# Altium footprint library RayPCB20210502.PcbLib: 231 footprints (part 9 of 15)
Each footprint in its own frame and in the unit in brackets; x right, y up, seen from the top. Pads: shape width x height; smd on the part's side, far side on the other; paste and mask are expansions set on the pad; w line width, h text height; cw(c..) or ccw(c..) is an arc to the next point about the centre after c.
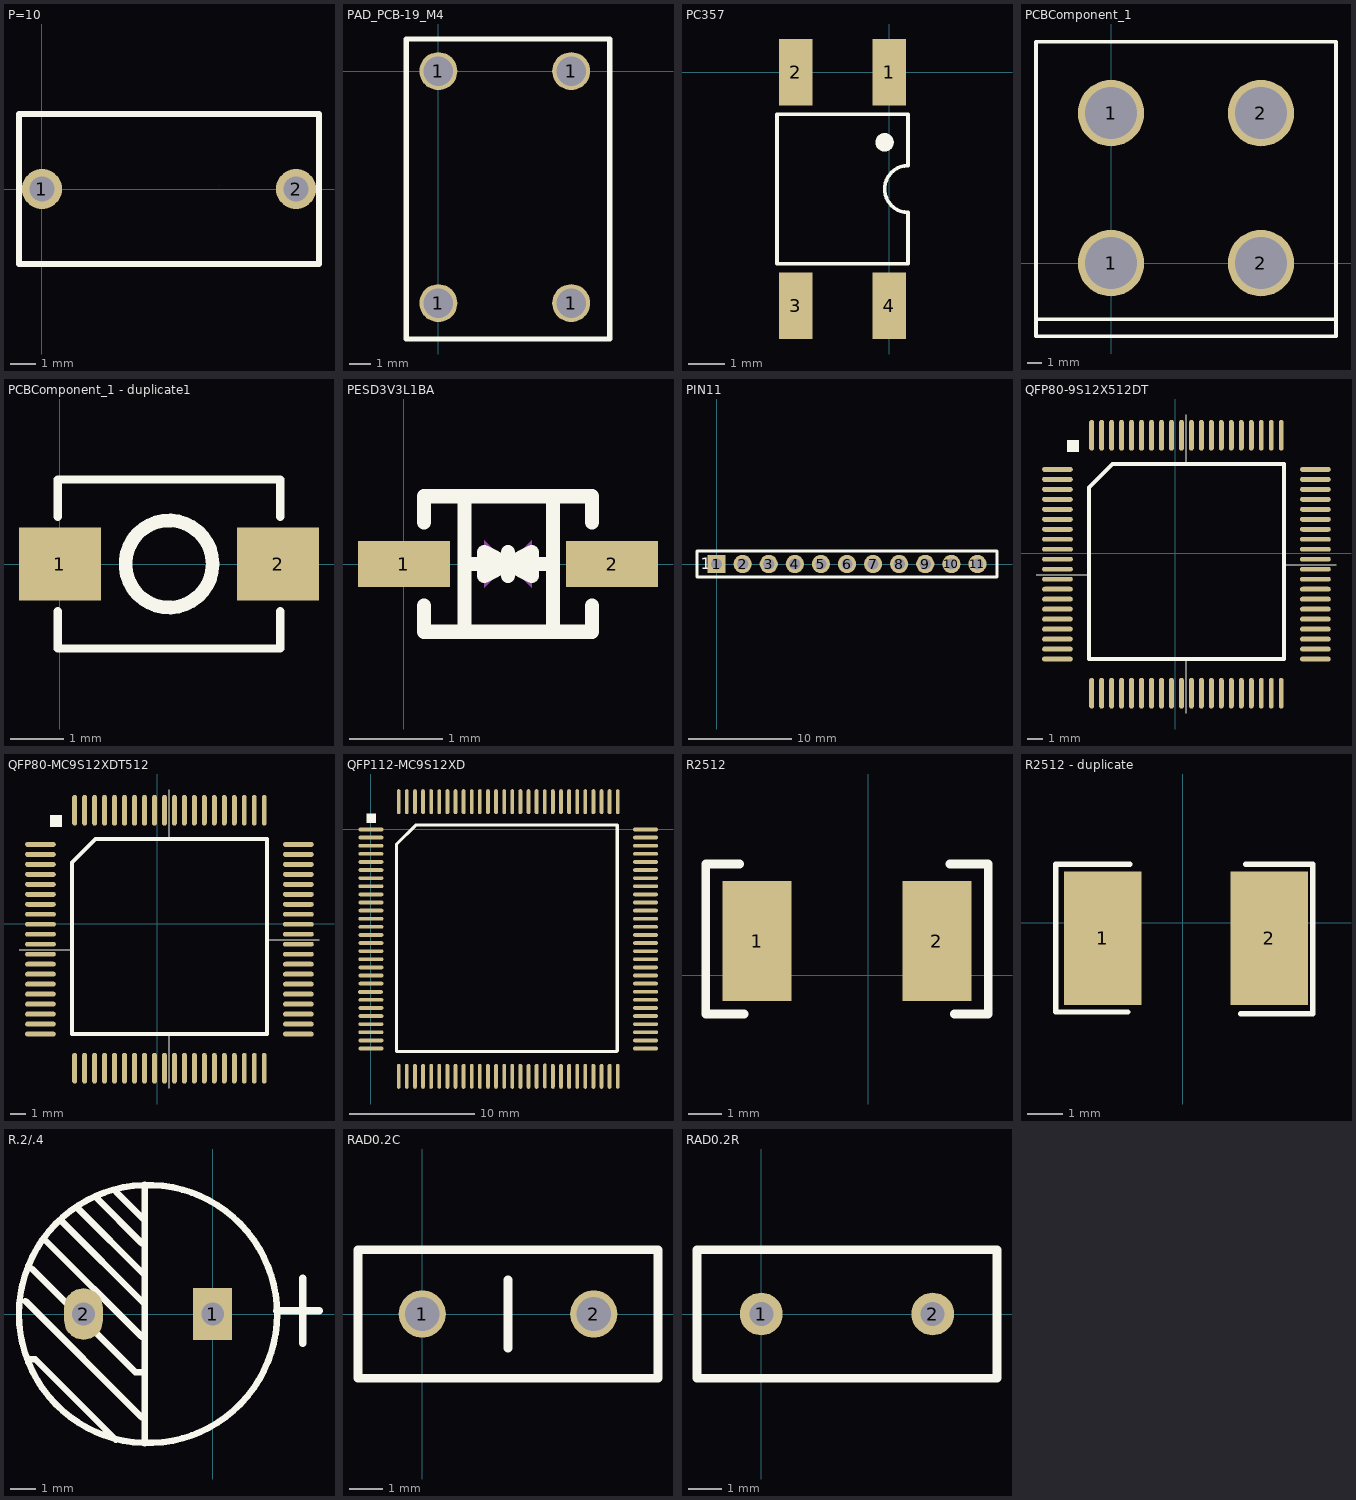
[diagram p8: the footprints below, top view; thin cyan lines are the x and y axes]

## P=10 [mm]
pads (2):
  round 1.6 hole 1: 1(0,0) 2(10.16,0)
Top Overlay:
  lines w0.254: -0.92,-3 11.08,-3 11.08,3 -0.92,3 -0.92,-3
Mechanical 15:
  lines w0.003: 7.112,0.127 7.112,0.127

## PAD_PCB-19_M4 [mm]
pads (4):
  round 1.8 hole 1.4: 1(0,-11) 1(0,0) 1(6.3,-11) 1(6.3,0)
Top Overlay:
  lines w0.254: -1.524,-12.7 -1.524,1.524 8.128,1.524 8.128,-12.7 -1.524,-12.7

## PC357 [mm]
pads (4):
  rect 0.9x1.8 smd: 1(0,0) 2(-2.54,0) 3(-2.54,-6.35) 4(0,-6.35)
Top Overlay:
  circle w0.25: c-0.127,-1.907 r0.125
  lines w0.1: -3.048,-5.207 -3.048,-1.143 0.508,-1.143 0.508,-2.54 ccw(c0.508,-3.175) 0.508,-3.81 0.508,-5.207 -3.048,-5.207

## PCBComponent_1 [mm]
pads (4):
  round 4.5 hole 3.5: 1(0,0) 1(0,10.16) 2(10.16,0) 2(10.16,10.16)
Top Overlay:
  lines w0.254: -5.08,-3.81 15.24,-3.81 ; -5.08,-4.953 15.24,-4.953 15.24,14.986 -5.08,14.986 -5.08,-4.953

## PCBComponent_1 - duplicate [mil]

## PCBComponent_1 - duplicate1 [mm]
pads (2):
  rect 1.53x1.36 smd: 1(0,0) 2(4.07,0)
Top Overlay:
  circle w0.254: c2.035,0 r0.813
  lines w0.152: -0.041,-0.883 -0.041,-1.576 4.111,-1.576 4.111,-0.883 ; -0.041,0.883 -0.041,1.576 4.111,1.576 4.111,0.883
Mechanical 15:
  lines w0.003: 3.432,0.127 3.432,0.127

## PESD3V3L1BA [mm]
pads (2):
  rect 0.985x0.49 smd: 1(0,0) 2(2.235,0)
Top Overlay:
  lines w0.152: 0.216,-0.448 0.216,-0.726 2.019,-0.726 2.019,-0.448 ; 0.216,0.448 0.216,0.726 2.019,0.726 2.019,0.448 ; 0.651,-0.726 0.651,0.726 ; 1.601,-0.726 1.601,0.726
  lines w0.154: 0.651,0 1.601,0.003 ; 0.99,0 1.121,0 1.371,0.127 1.371,-0.127 1.12,-0.003 ; 1.115,0.003 0.863,0.127 0.863,-0.127 1.114,0 1.244,0 ; 1.117,-0.127 1.117,0.127
Mechanical 15:
  region: 1.371,-0.254 1.371,0.254 1.117,0
  region: 0.863,0.254 0.863,-0.254 1.117,0

## PIN11 [mil]
pads (11):
  rect 70x70 hole 43: 1(0,0)
  round 70 hole 43: 2(100,0) 3(200,0) 4(300,0) 5(400,0) 6(500,0) 7(600,0) 8(700,0) 9(800,0) 10(900,0) 11(1000,0)
Top Overlay:
  lines w10: -75,-50 1075,-50 1075,50 -75,50 -75,-50
  text "1" at -60,-20 h45

## QFP80-9S12X512DT [mm]
pads (80):
  oval 2x0.32 smd: 1(-7.67,5.465) 2(-7.67,4.815) 3(-7.67,4.165) 4(-7.67,3.515) 5(-7.67,2.865) 6(-7.67,2.215) 7(-7.67,1.565) 8(-7.67,0.915) 9(-7.67,0.265) 10(-7.67,-0.385) 11(-7.67,-1.035) 12(-7.67,-1.685) 13(-7.67,-2.335) 14(-7.67,-2.985) 15(-7.67,-3.635) 16(-7.67,-4.285) 17(-7.67,-4.935) 18(-7.67,-5.585) 19(-7.67,-6.235) 20(-7.67,-6.885) 41(9.13,-6.885) 42(9.13,-6.235) 43(9.13,-5.585) 44(9.13,-4.935) 45(9.13,-4.285) 46(9.13,-3.635) 47(9.13,-2.985) 48(9.13,-2.335) 49(9.13,-1.685) 50(9.13,-1.035) 51(9.13,-0.385) 52(9.13,0.265) 53(9.13,0.915) 54(9.13,1.565) 55(9.13,2.215) 56(9.13,2.865) 57(9.13,3.515) 58(9.13,4.165) 59(9.13,4.815) 60(9.13,5.465)
  oval 0.32x2 smd: 21(-5.445,-9.11) 22(-4.795,-9.11) 23(-4.145,-9.11) 24(-3.495,-9.11) 25(-2.845,-9.11) 26(-2.195,-9.11) 27(-1.545,-9.11) 28(-0.895,-9.11) 29(-0.245,-9.11) 30(0.405,-9.11) 31(1.055,-9.11) 32(1.705,-9.11) 33(2.355,-9.11) 34(3.005,-9.11) 35(3.655,-9.11) 36(4.305,-9.11) 37(4.955,-9.11) 38(5.605,-9.11) 39(6.255,-9.11) 40(6.905,-9.11) 61(6.905,7.69) 62(6.255,7.69) 63(5.605,7.69) 64(4.955,7.69) 65(4.305,7.69) 66(3.655,7.69) 67(3.005,7.69) 68(2.355,7.69) 69(1.705,7.69) 70(1.055,7.69) 71(0.405,7.69) 72(-0.245,7.69) 73(-0.895,7.69) 74(-1.545,7.69) 75(-2.195,7.69) 76(-2.845,7.69) 77(-3.495,7.69) 78(-4.145,7.69) 79(-4.795,7.69) 80(-5.445,7.69)
Top Overlay:
  rectangle: -7.035,6.608 -6.273,7.37
  lines w0.076: -9.067,-1.393 -5.618,-1.393 ; 0.712,-10.41 0.712,-6.881 ; 0.712,5.846 0.712,9.021 ; 7.062,-0.758 10.471,-0.758
  lines w0.254: -5.618,-6.881 -5.618,4.295 -4.094,5.819 7.082,5.819 7.082,-6.881 -5.11,-6.881 -5.618,-6.881

## QFP80-MC9S12XDT512 [mm]
pads (80):
  oval 2x0.32 smd: 1(-7.62,5.18) 2(-7.62,4.53) 3(-7.62,3.88) 4(-7.62,3.23) 5(-7.62,2.58) 6(-7.62,1.93) 7(-7.62,1.28) 8(-7.62,0.63) 9(-7.62,-0.02) 10(-7.62,-0.67) 11(-7.62,-1.32) 12(-7.62,-1.97) 13(-7.62,-2.62) 14(-7.62,-3.27) 15(-7.62,-3.92) 16(-7.62,-4.57) 17(-7.62,-5.22) 18(-7.62,-5.87) 19(-7.62,-6.52) 20(-7.62,-7.17) 41(9.18,-7.17) 42(9.18,-6.52) 43(9.18,-5.87) 44(9.18,-5.22) 45(9.18,-4.57) 46(9.18,-3.92) 47(9.18,-3.27) 48(9.18,-2.62) 49(9.18,-1.97) 50(9.18,-1.32) 51(9.18,-0.67) 52(9.18,-0.02) 53(9.18,0.63) 54(9.18,1.28) 55(9.18,1.93) 56(9.18,2.58) 57(9.18,3.23) 58(9.18,3.88) 59(9.18,4.53) 60(9.18,5.18)
  oval 0.32x2 smd: 21(-5.395,-9.395) 22(-4.745,-9.395) 23(-4.095,-9.395) 24(-3.445,-9.395) 25(-2.795,-9.395) 26(-2.145,-9.395) 27(-1.495,-9.395) 28(-0.845,-9.395) 29(-0.195,-9.395) 30(0.455,-9.395) 31(1.105,-9.395) 32(1.755,-9.395) 33(2.405,-9.395) 34(3.055,-9.395) 35(3.705,-9.395) 36(4.355,-9.395) 37(5.005,-9.395) 38(5.655,-9.395) 39(6.305,-9.395) 40(6.955,-9.395) 61(6.955,7.405) 62(6.305,7.405) 63(5.655,7.405) 64(5.005,7.405) 65(4.355,7.405) 66(3.705,7.405) 67(3.055,7.405) 68(2.405,7.405) 69(1.755,7.405) 70(1.105,7.405) 71(0.455,7.405) 72(-0.195,7.405) 73(-0.845,7.405) 74(-1.495,7.405) 75(-2.145,7.405) 76(-2.795,7.405) 77(-3.445,7.405) 78(-4.095,7.405) 79(-4.745,7.405) 80(-5.395,7.405)
Top Overlay:
  rectangle: -6.985,6.323 -6.223,7.085
  lines w0.076: -9.017,-1.678 -5.568,-1.678 ; 0.762,-10.695 0.762,-7.166 ; 0.762,5.561 0.762,8.736 ; 7.112,-1.043 10.521,-1.043
  lines w0.254: -5.568,-7.166 -5.06,-7.166 7.132,-7.166 7.132,5.534 -4.044,5.534 -5.568,4.01 -5.568,-7.166

## QFP112-MC9S12XD [mm] "112pin"
pads (112):
  oval 2x0.305 smd: 1(0,0) 2(0,-0.65) 3(0,-1.3) 4(0,-1.95) 5(0,-2.6) 6(0,-3.25) 7(0,-3.9) 8(0,-4.55) 9(0,-5.2) 10(0,-5.85) 11(0,-6.5) 12(0,-7.15) 13(0,-7.8) 14(0,-8.45) 15(0,-9.1) 16(0,-9.75) 17(0,-10.4) 18(0,-11.05) 19(0,-11.7) 20(0,-12.35) 21(-0.037,-13.015) 22(0,-13.65) 23(0,-14.3) 24(0,-14.95) 25(0,-15.6) 26(0,-16.25) 27(0,-16.9) 28(0,-17.55) 57(22,-17.55) 58(22,-16.9) 59(22,-16.25) 60(22,-15.6) 61(22,-14.95) 62(22,-14.3) 63(22,-13.65) 64(22,-13) 65(22,-12.35) 66(22,-11.7) 67(22,-11.05) 68(22,-10.4) 69(22,-9.75) 70(22,-9.1) 71(22,-8.45) 72(22,-7.8) 73(22,-7.15) 74(22,-6.5) 75(22,-5.85) 76(22,-5.2) 77(22,-4.55) 78(22,-3.9) 79(22,-3.25) 80(22,-2.6) 81(22,-1.95) 82(22,-1.3) 83(22,-0.65) 84(22,0)
  oval 0.305x2 smd: 29(2.225,-19.775) 30(2.875,-19.775) 31(3.525,-19.775) 32(4.175,-19.775) 33(4.825,-19.775) 34(5.475,-19.775) 35(6.125,-19.775) 36(6.775,-19.775) 37(7.425,-19.775) 38(8.075,-19.775) 39(8.725,-19.775) 40(9.375,-19.775) 41(10.025,-19.775) 42(10.675,-19.775) 43(11.325,-19.775) 44(11.975,-19.775) 45(12.625,-19.775) 46(13.275,-19.775) 47(13.933,-19.746) 48(14.575,-19.775) 49(15.225,-19.775) 50(15.875,-19.775) 51(16.525,-19.775) 52(17.175,-19.775) 53(17.825,-19.775) 54(18.475,-19.775) 55(19.125,-19.775) 56(19.775,-19.775) 85(19.775,2.225) 86(19.125,2.225) 87(18.475,2.225) 88(17.825,2.225) 89(17.175,2.225) 90(16.525,2.225) 91(15.875,2.225) 92(15.225,2.225) 93(14.575,2.225) 94(13.925,2.225) 95(13.275,2.225) 96(12.625,2.225) 97(11.975,2.225) 98(11.325,2.225) 99(10.675,2.225) 100(10.025,2.225) 101(9.375,2.225) 102(8.725,2.225) 103(8.075,2.225) 104(7.425,2.225) 105(6.775,2.225) 106(6.125,2.225) 107(5.475,2.225) 108(4.825,2.225) 109(4.175,2.225) 110(3.525,2.225) 111(2.875,2.225) 112(2.225,2.225)
Top Overlay:
  rectangle: -0.372,0.538 0.39,1.3
  lines w0.254: 19.718,-17.784 14.244,-17.784 2.052,-17.784 2.052,-12.346 2.052,-1.17 3.576,0.354 19.741,0.354 19.741,-12.346 19.741,-17.761

## R2512 [mil]
pads (2):
  rect 80x140 smd: 1(-130,40) 2(80,40)
Top Overlay:
  lines w10: -150,130 -190,130 -190,45 -190,-45 -145,-45 ; 95,130 140,130 140,40 140,-45 100,-45

## R2512 - duplicate [mm]
pads (2):
  rect 2.2x3.8 smd: 1(-2.269,-0.442) 2(2.457,-0.442)
Top Overlay:
  lines w0.152: -1.556,-2.542 -3.607,-2.543 -3.607,1.659 -1.506,1.658 ; 1.643,-2.591 3.693,-2.591 3.693,1.659 1.793,1.659
Mechanical 15:
  lines w0.003: 1.694,-0.339 1.694,-0.339

## R.2/.4 [mil]
pads (2):
  rect 60x80 hole 35: 1(0,0)
  oval 60x80 hole 35: 2(-200,0)
Top Overlay:
  circle w10: c-100,0 r200
  lines w10: -290,20 -110,-160 -105,-160 ; -285,-70 -275,-70 -150,-195 ; -280,70 -120,-90 -105,-90 ; -260,115 -110,-35 -105,-35 ; -235,145 -105,15 ; -210,165 -105,60 ; -180,180 -110,110 -105,110 ; -150,190 -105,145 -105,130 ; -105,-200 -105,200
  lines w12: 100,5 165,5 ; 140,-45 140,55

## RAD0.2C [mil]
pads (2):
  round 55 hole 40: 1(0,0) 2(200,0)
Top Overlay:
  lines w10: 100,-40 100,40 ; -75,-75 -75,75 275,75 275,-75 -75,-75

## RAD0.2R [mil]
pads (2):
  round 50 hole 28: 1(0,0) 2(200,0)
Top Overlay:
  lines w10: -75,-75 0,-75 200,-75 275,-75 275,75 200,75 0,75 -75,75 -75,-75